# Altium footprint library R2512.PcbLib: 1 footprints
Each footprint in its own frame and in the unit in brackets; x right, y up, seen from the top. Pads: shape width x height; smd on the part's side, far side on the other; paste and mask are expansions set on the pad; w line width, h text height; cw(c..) or ccw(c..) is an arc to the next point about the centre after c.
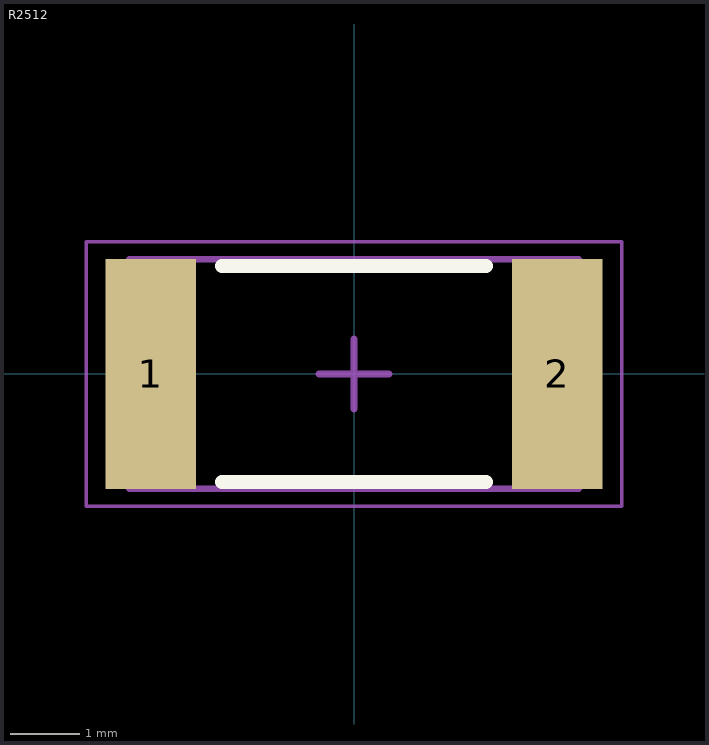
[diagram p0: the footprint, top view; thin cyan lines are the x and y axes]

## R2512 [mm]
height 0.6
pads (2):
  rect 1.3x3.3 smd: 1(-2.925,0) 2(2.925,0)
Top Overlay:
  lines w0.2: -1.9,-1.55 1.9,-1.55 ; -1.9,1.55 1.9,1.55
TopAssy:
  lines w0.1: -3.225,-1.65 3.225,-1.65 3.225,1.65 -3.225,1.65 -3.225,-1.65
Mechanical 15:
  lines w0.05: -3.85,-1.9 3.85,-1.9 3.85,1.9 -3.85,1.9 -3.85,-1.9
  lines w0.1: -0.5,0 0.5,0 ; 0,-0.5 0,0.5
3D body: height 0.6, standoff 0, extent 2.625,-1.65 3.225,1.65
3D body: height 0.6, standoff 0, extent -3.225,-1.65 -2.625,1.65
3D body: height 0.6, standoff 0, extent -2.625,-1.65 2.625,1.65